# EAGLE library part ULN2003A (library pimoroni-ics)
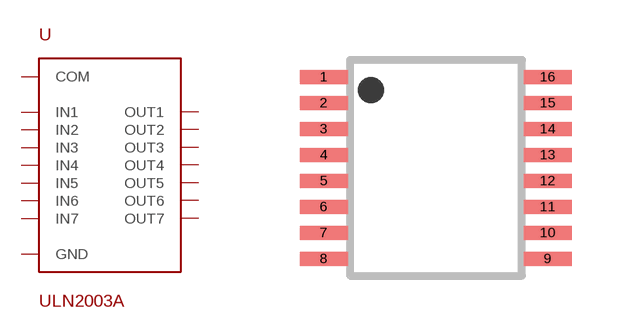
[diagram p4: symbol with the pads of TSSOP-16-TI; footprint TSSOP-16-TI]

Designator prefix -

## ULN2003A  [TSSOP-16-TI]
1  IN1
2  IN2
3  IN3
4  IN4
5  IN5
6  IN6
7  IN7
8  GND
9  COM
10  OUT7
11  OUT6
12  OUT5
13  OUT4
14  OUT3
15  OUT2
16  OUT1

## Footprint TSSOP-16-TI (pad centres in mm)
PW (R-PDSO-G8) Source: http://focus.ti.com/lit/ds/symlink/ads1271.pdf
smd 1.2 x 0.35: 1 -2.808,2.275; 2 -2.808,1.625; 3 -2.808,0.975; 4 -2.808,0.325; 5 -2.808,-0.325; 6 -2.808,-0.975; 7 -2.808,-1.625; 8 -2.808,-2.275; 9 2.795,-2.275; 10 2.795,-1.625; 11 2.795,-0.975; 12 2.795,-0.325; 13 2.795,0.325; 14 2.795,0.975; 15 2.795,1.625; 16 2.795,2.275